# Altium integrated library Renesas Logic.IntLib: 1013 symbols (part 25 of 27)
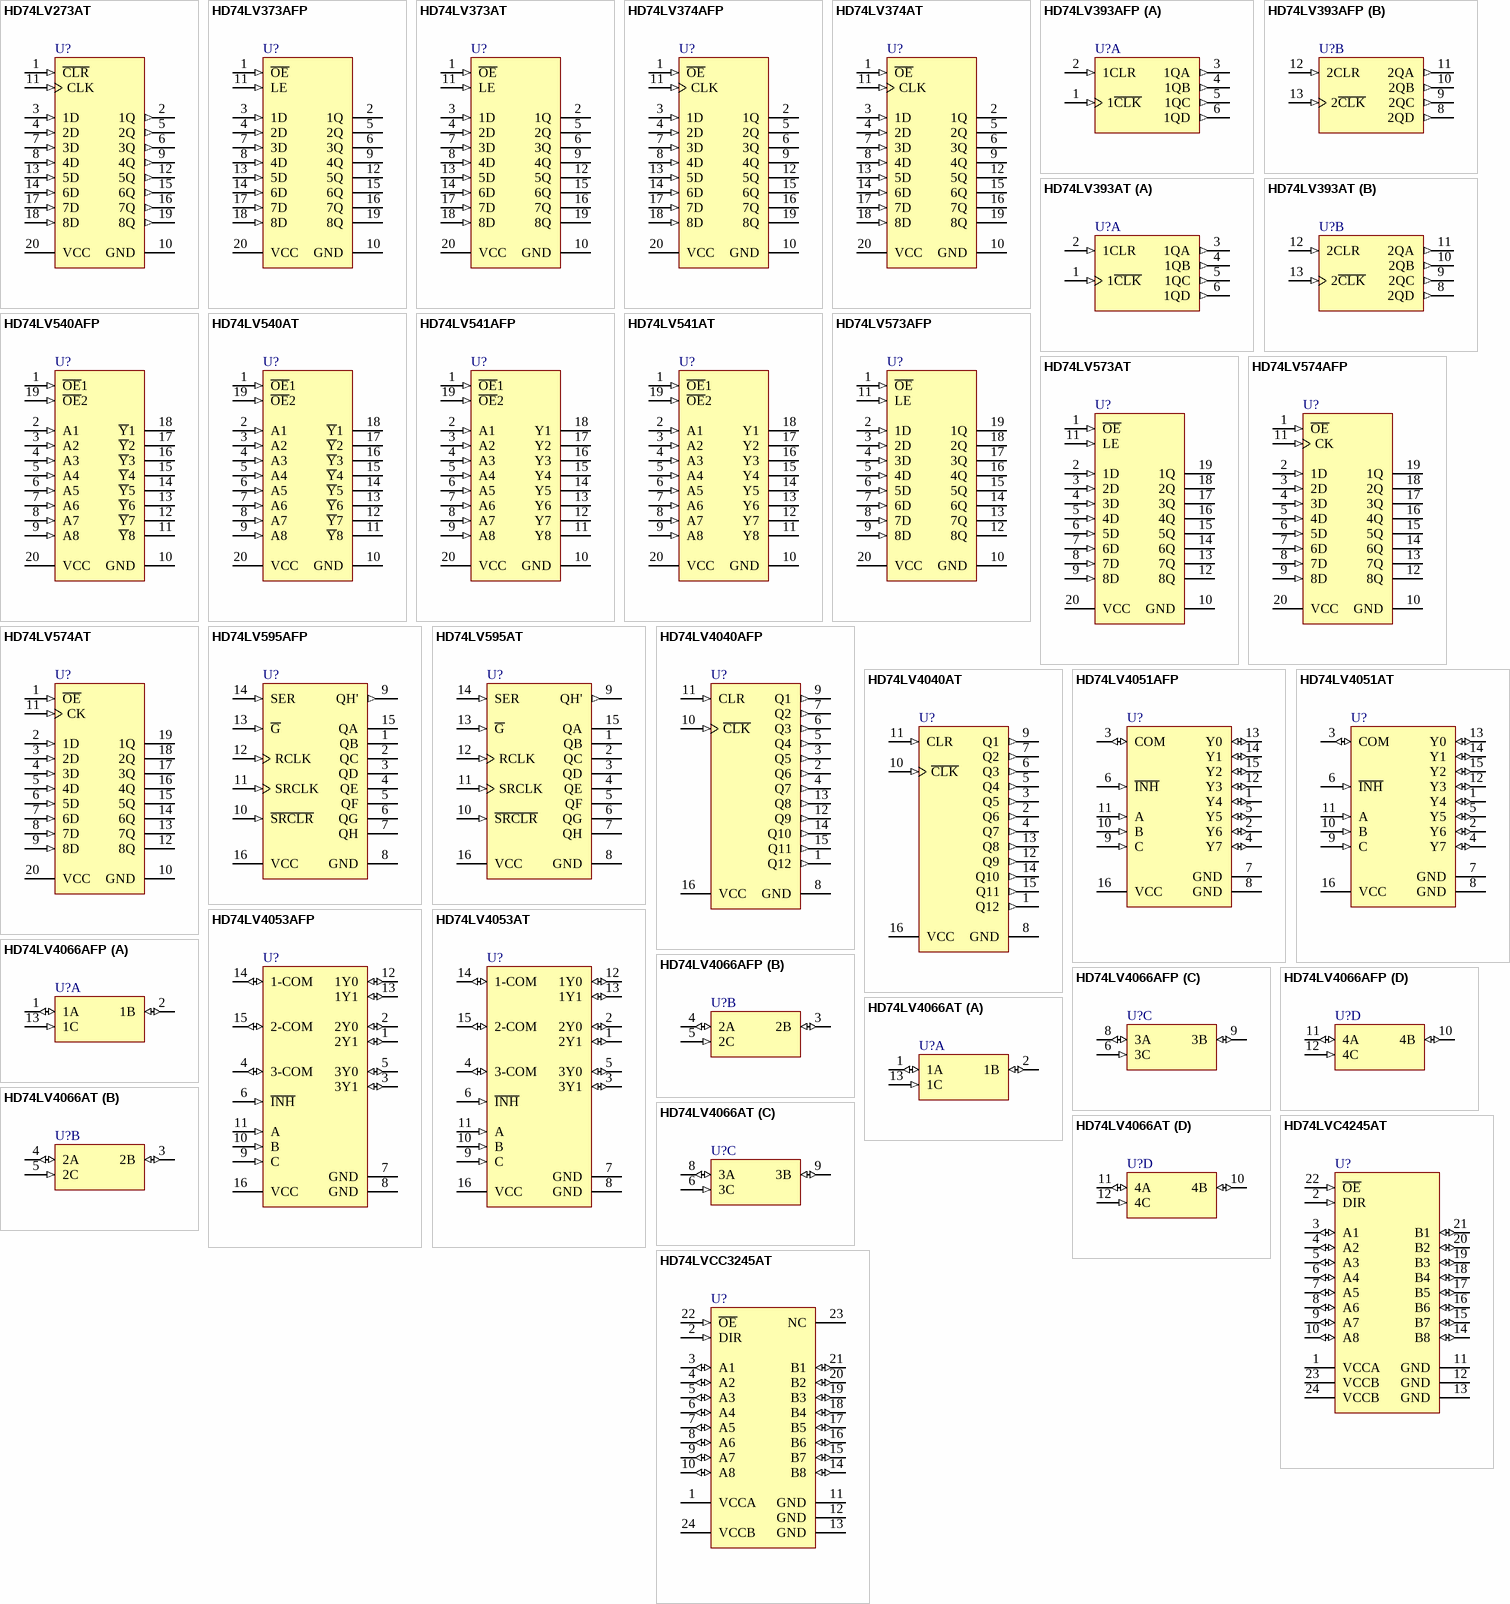
[diagram p77: symbols HD74LV273AT to HD74LVCC3245AT]

## HD74LV4066AT
designator U?
Quad Analog Switches / Quad Multiplexers; Published: 10-Feb-2010; DatasheetVersion: Rev.4.00, Jul-2004; PackageVersion: Sep-2005; PackageReference: PTSP0014JA-B; Publisher: Altium Limited; PackageDescription: 14-Pin Plastic Thin Small Outline Package 0.65 mm Pitch; Code_JEITA: P-TSSOP14-4.4x5-0.65; ComponentLink1Description: Manufacturer Link; ComponentLink1URL: http://sg.renesas.com/fmwk.jsp?cnt=hd74lv_a_root.jsp&fp=/products/standard_ic/general_purpose_logic/low_voltage_logic/hd74lv_a/; ComponentLink2Description: Datasheet; ComponentLink2URL: http://documentation.renesas.com/eng/products/logic/rej03d0340_hd74lv4066a.pdf; ComponentLink3Description: Packaging Specification; ComponentLink3URL: http://sg.renesas.com/media/products/common_info/package/pdf/ic/code/ptsp0014ja_b.pdf
footprint PTSP0014JA-B_N (TSOP, 14-Leads, Body 5x4.4mm, Pitch 0.65mm, IPC Medium Density)
footprint PTSP0014JA-B_L (TSOP, 14-Leads, Body 5x4.4mm, Pitch 0.65mm, IPC High Density)
footprint PTSP0014JA-B_M (TSOP, 14-Leads, Body 5x4.4mm, Pitch 0.65mm, IPC Low Density)
pins on every part: 7 GND (power) hidden, 14 VCC (power) hidden
part A pins: 1 1A (io), 2 1B (io), 13 1C (in)
part B pins: 3 2B (io), 4 2A (io), 5 2C (in)
part C pins: 6 3C (in), 8 3A (io), 9 3B (io)
part D pins: 10 4B (io), 11 4A (io), 12 4C (in)

## HD74LVC4245AT
designator U?
Octal Bus Transceiver and 3.3 V to 5 V shifters with 3-State Outputs; Published: 10-Feb-2010; DatasheetVersion: Rev.1.01, Apr-2005; PackageVersion: Sep-2005; PackageReference: PTSP0024JB-A; Publisher: Altium Limited; PackageDescription: 24-Pin Plastic Thin Small Outline Package, 7.8 x 4.4 mm Body, 0.65 mm Pitch; Code_JEITA: P-TSSOP24-4.4x7.8-0.65; ComponentLink1Description: Manufacturer Link; ComponentLink1URL: http://sg.renesas.com/fmwk.jsp?cnt=hd74lvc_root.jsp&fp=/products/standard_ic/general_purpose_logic/low_voltage_logic/hd74lvc/; ComponentLink2Description: Datasheet; ComponentLink2URL: http://documentation.renesas.com/eng/products/logic/rej03d0378_hd74lvc4245a.pdf; ComponentLink3Description: Packaging Specification; ComponentLink3URL: http://sg.renesas.com/media/products/common_info/package/pdf/ic/code/ptsp0024jb_a.pdf
footprint PTSP0024JB-A_N (TSOP, 24-Leads, Body 7.8x4.4mm, Pitch 0.65mm, IPC Medium Density)
footprint PTSP0024JB-A_L (TSOP, 24-Leads, Body 7.8x4.4mm, Pitch 0.65mm, IPC High Density)
footprint PTSP0024JB-A_M (TSOP, 24-Leads, Body 7.8x4.4mm, Pitch 0.65mm, IPC Low Density)
pins: 1 VCCA (power), 2 DIR (in), 3 A1 (io), 4 A2 (io), 5 A3 (io), 6 A4 (io), 7 A5 (io), 8 A6 (io), 9 A7 (io), 10 A8 (io), 11 GND (power), 12 GND (power), 13 GND (power), 14 B8 (io), 15 B7 (io), 16 B6 (io), 17 B5 (io), 18 B4 (io), 19 B3 (io), 20 B2 (io), 21 B1 (io), 22 ~{OE} (in), 23 VCCB (power), 24 VCCB (power)

## HD74LVCC3245AT
designator U?
Octal Bus Transceiver with adjustable Output Voltage and 3-State Outputs; Published: 10-Feb-2010; DatasheetVersion: Rev.2.01, Apr-2005; PackageVersion: Sep-2005; PackageReference: PTSP0024JB-A; Publisher: Altium Limited; PackageDescription: 24-Pin Plastic Thin Small Outline Package, 7.8 x 4.4 mm Body, 0.65 mm Pitch; Code_JEITA: P-TSSOP24-4.4x7.8-0.65; ComponentLink1Description: Manufacturer Link; ComponentLink1URL: http://sg.renesas.com/fmwk.jsp?cnt=hd74lvc_root.jsp&fp=/products/standard_ic/general_purpose_logic/low_voltage_logic/hd74lvc/; ComponentLink2Description: Datasheet; ComponentLink2URL: http://documentation.renesas.com/eng/products/logic/rej03d0379_hd74lvcc3245a.pdf; ComponentLink3Description: Packaging Specification; ComponentLink3URL: http://sg.renesas.com/media/products/common_info/package/pdf/ic/code/ptsp0024jb_a.pdf
footprint PTSP0024JB-A_N (TSOP, 24-Leads, Body 7.8x4.4mm, Pitch 0.65mm, IPC Medium Density)
footprint PTSP0024JB-A_L (TSOP, 24-Leads, Body 7.8x4.4mm, Pitch 0.65mm, IPC High Density)
footprint PTSP0024JB-A_M (TSOP, 24-Leads, Body 7.8x4.4mm, Pitch 0.65mm, IPC Low Density)
pins: 1 VCCA (power), 2 DIR (in), 3 A1 (io), 4 A2 (io), 5 A3 (io), 6 A4 (io), 7 A5 (io), 8 A6 (io), 9 A7 (io), 10 A8 (io), 11 GND (power), 12 GND (power), 13 GND (power), 14 B8 (io), 15 B7 (io), 16 B6 (io), 17 B5 (io), 18 B4 (io), 19 B3 (io), 20 B2 (io), 21 B1 (io), 22 ~{OE} (in), 23 NC, 24 VCCB (power)

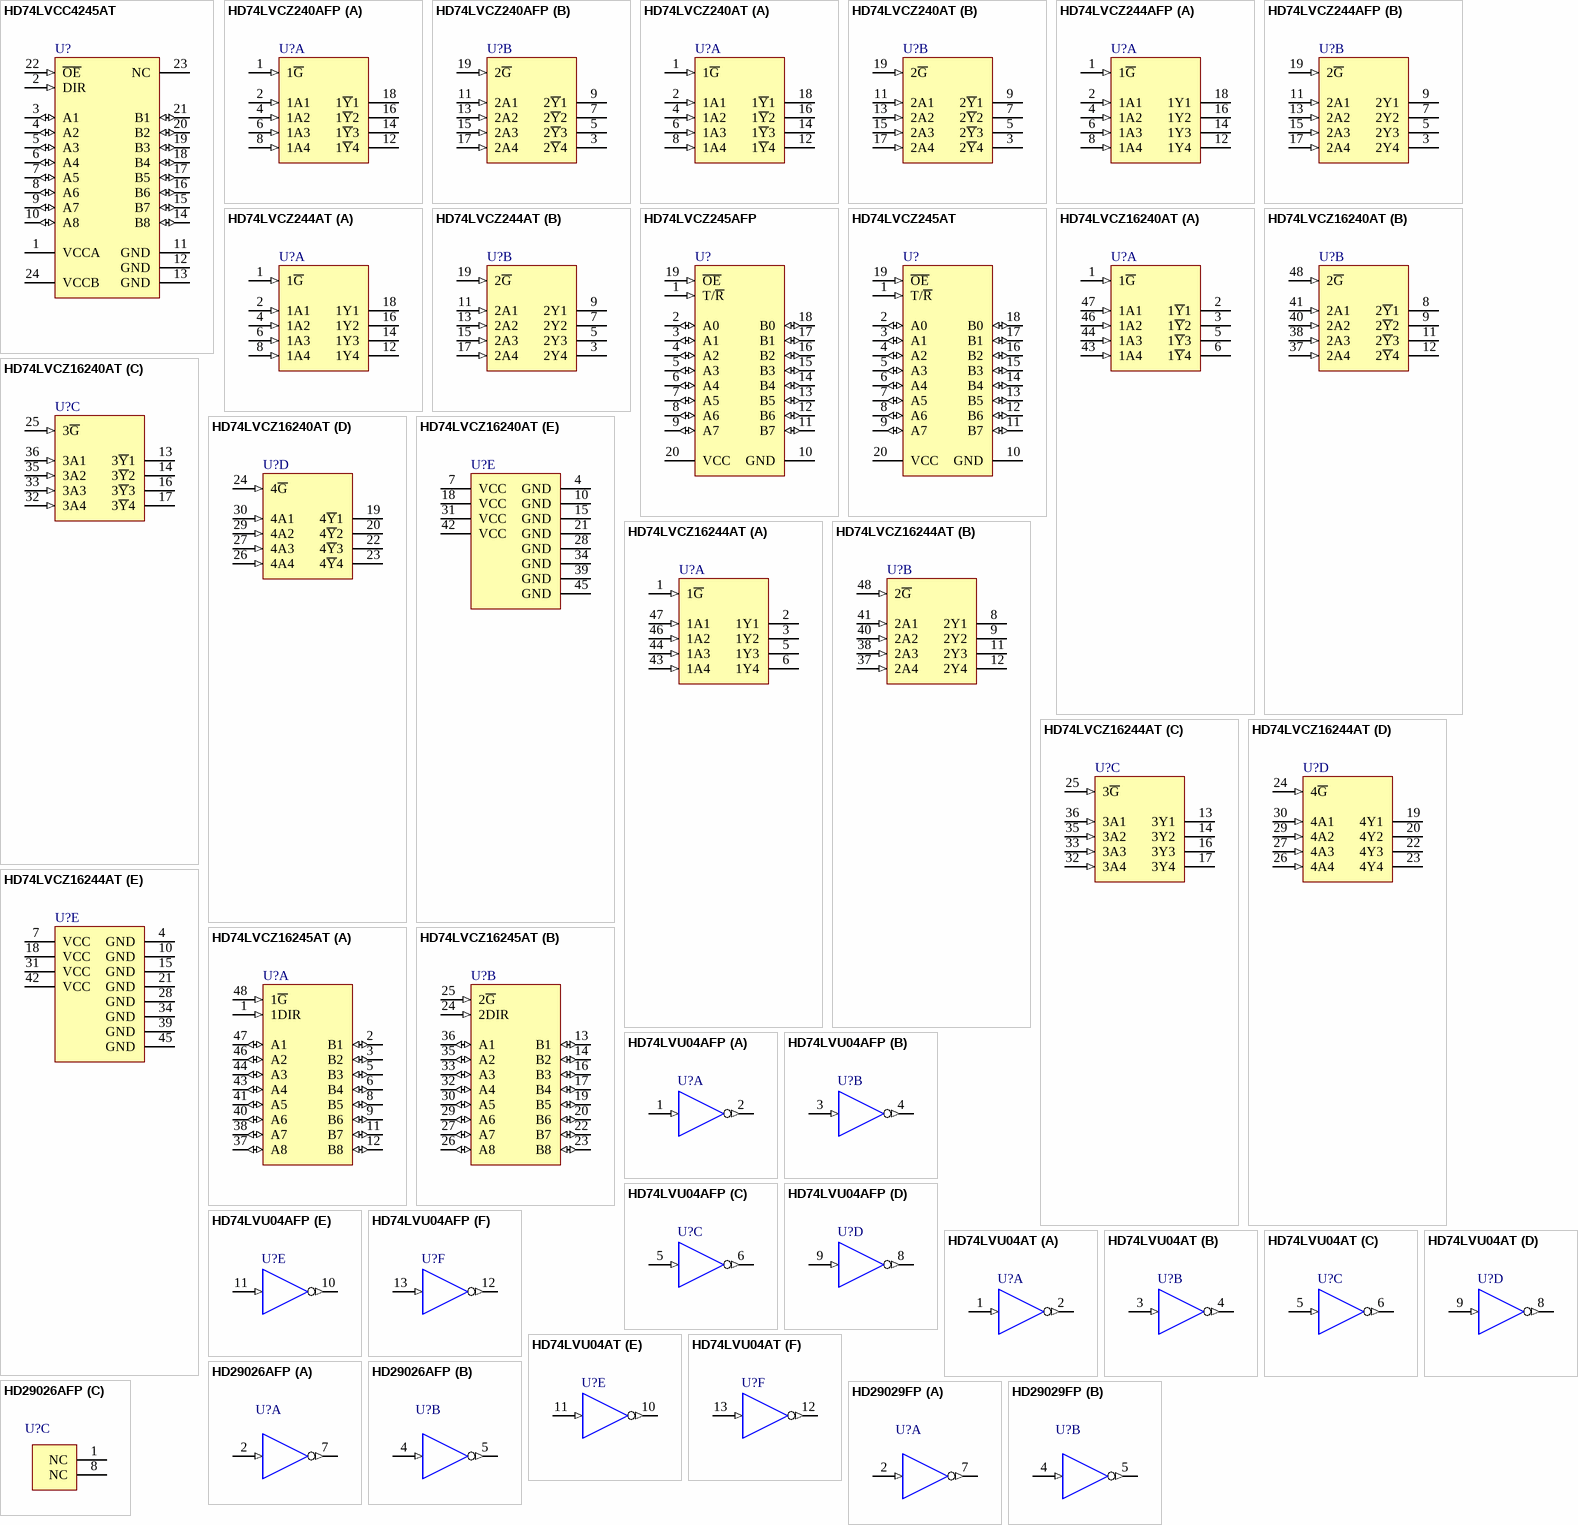
[diagram p47: symbols HD74LVCC4245AT to HD29029FP]

## HD74LVCC4245AT
designator U?
Octal Dual-Supply Bus Transceiver with configurable Output Voltage and 3-State Outputs; Published: 10-Feb-2010; DatasheetVersion: Rev.1.01, Apr-2005; PackageVersion: Sep-2005; PackageReference: PTSP0024JB-A; Publisher: Altium Limited; PackageDescription: 24-Pin Plastic Thin Small Outline Package, 7.8 x 4.4 mm Body, 0.65 mm Pitch; Code_JEITA: P-TSSOP24-4.4x7.8-0.65; ComponentLink1Description: Manufacturer Link; ComponentLink1URL: http://sg.renesas.com/fmwk.jsp?cnt=hd74lvc_root.jsp&fp=/products/standard_ic/general_purpose_logic/low_voltage_logic/hd74lvc/; ComponentLink2Description: Datasheet; ComponentLink2URL: http://documentation.renesas.com/eng/products/logic/rej03d0380_hd74lvcc4245a.pdf; ComponentLink3Description: Packaging Specification; ComponentLink3URL: http://sg.renesas.com/media/products/common_info/package/pdf/ic/code/ptsp0024jb_a.pdf
footprint PTSP0024JB-A_N (TSOP, 24-Leads, Body 7.8x4.4mm, Pitch 0.65mm, IPC Medium Density)
footprint PTSP0024JB-A_L (TSOP, 24-Leads, Body 7.8x4.4mm, Pitch 0.65mm, IPC High Density)
footprint PTSP0024JB-A_M (TSOP, 24-Leads, Body 7.8x4.4mm, Pitch 0.65mm, IPC Low Density)
pins: 1 VCCA (power), 2 DIR (in), 3 A1 (io), 4 A2 (io), 5 A3 (io), 6 A4 (io), 7 A5 (io), 8 A6 (io), 9 A7 (io), 10 A8 (io), 11 GND (power), 12 GND (power), 13 GND (power), 14 B8 (io), 15 B7 (io), 16 B6 (io), 17 B5 (io), 18 B4 (io), 19 B3 (io), 20 B2 (io), 21 B1 (io), 22 ~{OE} (in), 23 NC, 24 VCCB (power)

## HD74LVCZ240AFP
designator U?
Octal Buffers / Line Drivers with Inverted 3-State Outputs (live insertion); Published: 10-Feb-2010; DatasheetVersion: Rev.3.00, Jul-2004; PackageVersion: Sep-2005; PackageReference: PRSP0020DD-B; Publisher: Altium Limited; PackageDescription: 20-Pin Plastic Small Outline Package, 12.6 x 5.5 x 1.8 mm Body, 1.27 mm Pitch; Code_JEITA: P-SOP20-5.5x12.6-1.27; ComponentLink1Description: Manufacturer Link; ComponentLink1URL: http://sg.renesas.com/fmwk.jsp?cnt=hd74lvc_root.jsp&fp=/products/standard_ic/general_purpose_logic/low_voltage_logic/hd74lvc/; ComponentLink2Description: Datasheet; ComponentLink2URL: http://documentation.renesas.com/eng/products/logic/rej03d0370_hd74lvcz240a.pdf; ComponentLink3Description: Packaging Specification; ComponentLink3URL: http://sg.renesas.com/media/products/common_info/package/pdf/ic/code/prsp0020dd_b.pdf
footprint PRSP0020DD-B_N (SOP, 20-Leads, Body 12.6x5.3mm, Pitch 1.27mm, IPC Medium Density)
footprint PRSP0020DD-B_L (SOP, 20-Leads, Body 12.6x5.3mm, Pitch 1.27mm, IPC High Density)
footprint PRSP0020DD-B_M (SOP, 20-Leads, Body 12.6x5.3mm, Pitch 1.27mm, IPC Low Density)
pins on every part: 10 GND (power) hidden, 20 VCC (power) hidden
part A pins: 1 1~{G} (in), 2 1A1 (in), 4 1A2 (in), 6 1A3 (in), 8 1A4 (in), 12 1~{Y}4 (hiz), 14 1~{Y}3 (hiz), 16 1~{Y}2 (hiz), 18 1~{Y}1 (hiz)
part B pins: 3 2~{Y}4 (hiz), 5 2~{Y}3 (hiz), 7 2~{Y}2 (hiz), 9 2~{Y}1 (hiz), 11 2A1 (in), 13 2A2 (in), 15 2A3 (in), 17 2A4 (in), 19 2~{G} (in)

## HD74LVCZ240AT
designator U?
Octal Buffers / Line Drivers with Inverted 3-State Outputs (live insertion); Published: 10-Feb-2010; DatasheetVersion: Rev.3.00, Jul-2004; PackageVersion: Sep-2005; PackageReference: PTSP0020JB-A; Publisher: Altium Limited; PackageDescription: 20-Pin Plastic Thin Small Outline Package, 6.5 x 4.4 mm Body, 0.65 mm Pitch; Code_JEITA: P-TSSOP20-4.4x6.5-0.65; ComponentLink1Description: Manufacturer Link; ComponentLink1URL: http://sg.renesas.com/fmwk.jsp?cnt=hd74lvc_root.jsp&fp=/products/standard_ic/general_purpose_logic/low_voltage_logic/hd74lvc/; ComponentLink2Description: Datasheet; ComponentLink2URL: http://documentation.renesas.com/eng/products/logic/rej03d0370_hd74lvcz240a.pdf; ComponentLink3Description: Packaging Specification; ComponentLink3URL: http://sg.renesas.com/media/products/common_info/package/pdf/ic/code/ptsp0020jb_a.pdf
footprint PTSP0020JB-A_N (TSOP, 20-Leads, Body 6.5x4.4mm, Pitch 0.65mm, IPC Medium Density)
footprint PTSP0020JB-A_L (TSOP, 20-Leads, Body 6.5x4.4mm, Pitch 0.65mm, IPC High Density)
footprint PTSP0020JB-A_M (TSOP, 20-Leads, Body 6.5x4.4mm, Pitch 0.65mm, IPC Low Density)
pins on every part: 10 GND (power) hidden, 20 VCC (power) hidden
part A pins: 1 1~{G} (in), 2 1A1 (in), 4 1A2 (in), 6 1A3 (in), 8 1A4 (in), 12 1~{Y}4 (hiz), 14 1~{Y}3 (hiz), 16 1~{Y}2 (hiz), 18 1~{Y}1 (hiz)
part B pins: 3 2~{Y}4 (hiz), 5 2~{Y}3 (hiz), 7 2~{Y}2 (hiz), 9 2~{Y}1 (hiz), 11 2A1 (in), 13 2A2 (in), 15 2A3 (in), 17 2A4 (in), 19 2~{G} (in)

## HD74LVCZ244AFP
designator U?
Octal Buffers / Line Drivers with Non-Inverted 3-State Outputs (live insertion); Published: 10-Feb-2010; DatasheetVersion: Rev.3.00, Aug-2004; PackageVersion: Sep-2005; PackageReference: PRSP0020DD-B; Publisher: Altium Limited; PackageDescription: 20-Pin Plastic Small Outline Package, 12.6 x 5.5 x 1.8 mm Body, 1.27 mm Pitch; Code_JEITA: P-SOP20-5.5x12.6-1.27; ComponentLink1Description: Manufacturer Link; ComponentLink1URL: http://sg.renesas.com/fmwk.jsp?cnt=hd74lvc_root.jsp&fp=/products/standard_ic/general_purpose_logic/low_voltage_logic/hd74lvc/; ComponentLink2Description: Datasheet; ComponentLink2URL: http://documentation.renesas.com/eng/products/logic/rej03d0371_hd74lvcz244a.pdf; ComponentLink3Description: Packaging Specification; ComponentLink3URL: http://sg.renesas.com/media/products/common_info/package/pdf/ic/code/prsp0020dd_b.pdf
footprint PRSP0020DD-B_N (SOP, 20-Leads, Body 12.6x5.3mm, Pitch 1.27mm, IPC Medium Density)
footprint PRSP0020DD-B_L (SOP, 20-Leads, Body 12.6x5.3mm, Pitch 1.27mm, IPC High Density)
footprint PRSP0020DD-B_M (SOP, 20-Leads, Body 12.6x5.3mm, Pitch 1.27mm, IPC Low Density)
pins on every part: 10 GND (power) hidden, 20 VCC (power) hidden
part A pins: 1 1~{G} (in), 2 1A1 (in), 4 1A2 (in), 6 1A3 (in), 8 1A4 (in), 12 1Y4 (hiz), 14 1Y3 (hiz), 16 1Y2 (hiz), 18 1Y1 (hiz)
part B pins: 3 2Y4 (hiz), 5 2Y3 (hiz), 7 2Y2 (hiz), 9 2Y1 (hiz), 11 2A1 (in), 13 2A2 (in), 15 2A3 (in), 17 2A4 (in), 19 2~{G} (in)

## HD74LVCZ244AT
designator U?
Octal Buffers / Line Drivers with Non-Inverted 3-State Outputs (live insertion); Published: 10-Feb-2010; DatasheetVersion: Rev.3.00, Aug-2004; PackageVersion: Sep-2005; PackageReference: PTSP0020JB-A; Publisher: Altium Limited; PackageDescription: 20-Pin Plastic Thin Small Outline Package, 6.5 x 4.4 mm Body, 0.65 mm Pitch; Code_JEITA: P-TSSOP20-4.4x6.5-0.65; ComponentLink1Description: Manufacturer Link; ComponentLink1URL: http://sg.renesas.com/fmwk.jsp?cnt=hd74lvc_root.jsp&fp=/products/standard_ic/general_purpose_logic/low_voltage_logic/hd74lvc/; ComponentLink2Description: Datasheet; ComponentLink2URL: http://documentation.renesas.com/eng/products/logic/rej03d0371_hd74lvcz244a.pdf; ComponentLink3Description: Packaging Specification; ComponentLink3URL: http://sg.renesas.com/media/products/common_info/package/pdf/ic/code/ptsp0020jb_a.pdf
footprint PTSP0020JB-A_N (TSOP, 20-Leads, Body 6.5x4.4mm, Pitch 0.65mm, IPC Medium Density)
footprint PTSP0020JB-A_L (TSOP, 20-Leads, Body 6.5x4.4mm, Pitch 0.65mm, IPC High Density)
footprint PTSP0020JB-A_M (TSOP, 20-Leads, Body 6.5x4.4mm, Pitch 0.65mm, IPC Low Density)
pins on every part: 10 GND (power) hidden, 20 VCC (power) hidden
part A pins: 1 1~{G} (in), 2 1A1 (in), 4 1A2 (in), 6 1A3 (in), 8 1A4 (in), 12 1Y4 (hiz), 14 1Y3 (hiz), 16 1Y2 (hiz), 18 1Y1 (hiz)
part B pins: 3 2Y4 (hiz), 5 2Y3 (hiz), 7 2Y2 (hiz), 9 2Y1 (hiz), 11 2A1 (in), 13 2A2 (in), 15 2A3 (in), 17 2A4 (in), 19 2~{G} (in)

## HD74LVCZ245AFP
designator U?
Octal Bidirectional Bus Transceivers with 3-State Outputs (live insertion); Published: 10-Feb-2010; DatasheetVersion: Rev.3.00, Aug-2004; PackageVersion: Sep-2005; PackageReference: PRSP0020DD-B; Publisher: Altium Limited; PackageDescription: 20-Pin Plastic Small Outline Package, 12.6 x 5.5 x 1.8 mm Body, 1.27 mm Pitch; Code_JEITA: P-SOP20-5.5x12.6-1.27; ComponentLink1Description: Manufacturer Link; ComponentLink1URL: http://sg.renesas.com/fmwk.jsp?cnt=hd74lvc_root.jsp&fp=/products/standard_ic/general_purpose_logic/low_voltage_logic/hd74lvc/; ComponentLink2Description: Datasheet; ComponentLink2URL: http://documentation.renesas.com/eng/products/logic/rej03d0372_hd74lvcz245a.pdf; ComponentLink3Description: Packaging Specification; ComponentLink3URL: http://sg.renesas.com/media/products/common_info/package/pdf/ic/code/prsp0020dd_b.pdf
footprint PRSP0020DD-B_N (SOP, 20-Leads, Body 12.6x5.3mm, Pitch 1.27mm, IPC Medium Density)
footprint PRSP0020DD-B_L (SOP, 20-Leads, Body 12.6x5.3mm, Pitch 1.27mm, IPC High Density)
footprint PRSP0020DD-B_M (SOP, 20-Leads, Body 12.6x5.3mm, Pitch 1.27mm, IPC Low Density)
pins: 1 T/~{R} (in), 2 A0 (io), 3 A1 (io), 4 A2 (io), 5 A3 (io), 6 A4 (io), 7 A5 (io), 8 A6 (io), 9 A7 (io), 10 GND (power), 11 B7 (io), 12 B6 (io), 13 B5 (io), 14 B4 (io), 15 B3 (io), 16 B2 (io), 17 B1 (io), 18 B0 (io), 19 ~{OE} (in), 20 VCC (power)

## HD74LVCZ245AT
designator U?
Octal Bidirectional Bus Transceivers with 3-State Outputs (live insertion); Published: 10-Feb-2010; DatasheetVersion: Rev.3.00, Aug-2004; PackageVersion: Sep-2005; PackageReference: PTSP0020JB-A; Publisher: Altium Limited; PackageDescription: 20-Pin Plastic Thin Small Outline Package, 6.5 x 4.4 mm Body, 0.65 mm Pitch; Code_JEITA: P-TSSOP20-4.4x6.5-0.65; ComponentLink1Description: Manufacturer Link; ComponentLink1URL: http://sg.renesas.com/fmwk.jsp?cnt=hd74lvc_root.jsp&fp=/products/standard_ic/general_purpose_logic/low_voltage_logic/hd74lvc/; ComponentLink2Description: Datasheet; ComponentLink2URL: http://documentation.renesas.com/eng/products/logic/rej03d0372_hd74lvcz245a.pdf; ComponentLink3Description: Packaging Specification; ComponentLink3URL: http://sg.renesas.com/media/products/common_info/package/pdf/ic/code/ptsp0020jb_a.pdf
footprint PTSP0020JB-A_N (TSOP, 20-Leads, Body 6.5x4.4mm, Pitch 0.65mm, IPC Medium Density)
footprint PTSP0020JB-A_L (TSOP, 20-Leads, Body 6.5x4.4mm, Pitch 0.65mm, IPC High Density)
footprint PTSP0020JB-A_M (TSOP, 20-Leads, Body 6.5x4.4mm, Pitch 0.65mm, IPC Low Density)
pins: 1 T/~{R} (in), 2 A0 (io), 3 A1 (io), 4 A2 (io), 5 A3 (io), 6 A4 (io), 7 A5 (io), 8 A6 (io), 9 A7 (io), 10 GND (power), 11 B7 (io), 12 B6 (io), 13 B5 (io), 14 B4 (io), 15 B3 (io), 16 B2 (io), 17 B1 (io), 18 B0 (io), 19 ~{OE} (in), 20 VCC (power)

## HD74LVCZ16240AT
designator U?
16-bit Buffers / Line Drivers with Inverted 3-State Outputs (live insertion); Published: 10-Feb-2010; DatasheetVersion: Rev.2.00, Aug-2004; PackageVersion: Sep-2005; PackageReference: PTSP0048KA-A; Publisher: Altium Limited; PackageDescription: 48-Pin Thin Shrink Small Outline Package, 12.5 x 6.1 mm Body, 0.5 mm Pitch; Code_JEITA: P-TSSOP48-6.1x12.5-0.50; ComponentLink1Description: Manufacturer Link; ComponentLink1URL: http://sg.renesas.com/fmwk.jsp?cnt=hd74lvc_root.jsp&fp=/products/standard_ic/general_purpose_logic/low_voltage_logic/hd74lvc/; ComponentLink2Description: Datasheet; ComponentLink2URL: http://documentation.renesas.com/eng/products/logic/rej03d0373_hd74lvcz16240a.pdf; ComponentLink3Description: Packaging Specification; ComponentLink3URL: http://sg.renesas.com/media/products/common_info/package/pdf/ic/code/ptsp0048ka_a.pdf
footprint PTSP0048KA-A_N (TSSOP, 48-Leads, Body 12.5x6.1mm, Pitch 0.5mm, IPC Medium Density)
footprint PTSP0048KA-A_L (TSSOP, 48-Leads, Body 12.5x6.1mm, Pitch 0.5mm, IPC High Density)
footprint PTSP0048KA-A_M (TSSOP, 48-Leads, Body 12.5x6.1mm, Pitch 0.5mm, IPC Low Density)
part A pins: 1 1~{G} (in), 2 1~{Y}1 (hiz), 3 1~{Y}2 (hiz), 5 1~{Y}3 (hiz), 6 1~{Y}4 (hiz), 43 1A4 (in), 44 1A3 (in), 46 1A2 (in), 47 1A1 (in)
part B pins: 8 2~{Y}1 (hiz), 9 2~{Y}2 (hiz), 11 2~{Y}3 (hiz), 12 2~{Y}4 (hiz), 37 2A4 (in), 38 2A3 (in), 40 2A2 (in), 41 2A1 (in), 48 2~{G} (in)
part C pins: 13 3~{Y}1 (hiz), 14 3~{Y}2 (hiz), 16 3~{Y}3 (hiz), 17 3~{Y}4 (hiz), 25 3~{G} (in), 32 3A4 (in), 33 3A3 (in), 35 3A2 (in), 36 3A1 (in)
part D pins: 19 4~{Y}1 (hiz), 20 4~{Y}2 (hiz), 22 4~{Y}3 (hiz), 23 4~{Y}4 (hiz), 24 4~{G} (in), 26 4A4 (in), 27 4A3 (in), 29 4A2 (in), 30 4A1 (in)
part E pins: 4 GND (power), 7 VCC (power), 10 GND (power), 15 GND (power), 18 VCC (power), 21 GND (power), 28 GND (power), 31 VCC (power), 34 GND (power), 39 GND (power), 42 VCC (power), 45 GND (power)

## HD74LVCZ16244AT
designator U?
16-bit Buffers / Line Drivers with Non-Inverted 3-State Outputs (live insertion); Published: 10-Feb-2010; DatasheetVersion: Rev.2.00, Aug-2004; PackageVersion: Sep-2005; PackageReference: PTSP0048KA-A; Publisher: Altium Limited; PackageDescription: 48-Pin Thin Shrink Small Outline Package, 12.5 x 6.1 mm Body, 0.5 mm Pitch; Code_JEITA: P-TSSOP48-6.1x12.5-0.50; ComponentLink1Description: Manufacturer Link; ComponentLink1URL: http://sg.renesas.com/fmwk.jsp?cnt=hd74lvc_root.jsp&fp=/products/standard_ic/general_purpose_logic/low_voltage_logic/hd74lvc/; ComponentLink2Description: Datasheet; ComponentLink2URL: http://documentation.renesas.com/eng/products/logic/rej03d0374_hd74lvcz16244a.pdf; ComponentLink3Description: Packaging Specification; ComponentLink3URL: http://sg.renesas.com/media/products/common_info/package/pdf/ic/code/ptsp0048ka_a.pdf
footprint PTSP0048KA-A_N (TSSOP, 48-Leads, Body 12.5x6.1mm, Pitch 0.5mm, IPC Medium Density)
footprint PTSP0048KA-A_L (TSSOP, 48-Leads, Body 12.5x6.1mm, Pitch 0.5mm, IPC High Density)
footprint PTSP0048KA-A_M (TSSOP, 48-Leads, Body 12.5x6.1mm, Pitch 0.5mm, IPC Low Density)
part A pins: 1 1~{G} (in), 2 1Y1 (hiz), 3 1Y2 (hiz), 5 1Y3 (hiz), 6 1Y4 (hiz), 43 1A4 (in), 44 1A3 (in), 46 1A2 (in), 47 1A1 (in)
part B pins: 8 2Y1 (hiz), 9 2Y2 (hiz), 11 2Y3 (hiz), 12 2Y4 (hiz), 37 2A4 (in), 38 2A3 (in), 40 2A2 (in), 41 2A1 (in), 48 2~{G} (in)
part C pins: 13 3Y1 (hiz), 14 3Y2 (hiz), 16 3Y3 (hiz), 17 3Y4 (hiz), 25 3~{G} (in), 32 3A4 (in), 33 3A3 (in), 35 3A2 (in), 36 3A1 (in)
part D pins: 19 4Y1 (hiz), 20 4Y2 (hiz), 22 4Y3 (hiz), 23 4Y4 (hiz), 24 4~{G} (in), 26 4A4 (in), 27 4A3 (in), 29 4A2 (in), 30 4A1 (in)
part E pins: 4 GND (power), 7 VCC (power), 10 GND (power), 15 GND (power), 18 VCC (power), 21 GND (power), 28 GND (power), 31 VCC (power), 34 GND (power), 39 GND (power), 42 VCC (power), 45 GND (power)

## HD74LVCZ16245AT
designator U?
16-bit Bidirectional Bus Transceivers with 3-State Outputs (live insertion); Published: 10-Feb-2010; DatasheetVersion: Rev.2.00, Aug-2004; PackageVersion: Sep-2005; PackageReference: PTSP0048KA-A; Publisher: Altium Limited; PackageDescription: 48-Pin Thin Shrink Small Outline Package, 12.5 x 6.1 mm Body, 0.5 mm Pitch; Code_JEITA: P-TSSOP48-6.1x12.5-0.50; ComponentLink1Description: Manufacturer Link; ComponentLink1URL: http://sg.renesas.com/fmwk.jsp?cnt=hd74lvc_root.jsp&fp=/products/standard_ic/general_purpose_logic/low_voltage_logic/hd74lvc/; ComponentLink2Description: Datasheet; ComponentLink2URL: http://documentation.renesas.com/eng/products/logic/rej03d0375_hd74lvcz16245a.pdf; ComponentLink3Description: Packaging Specification; ComponentLink3URL: http://sg.renesas.com/media/products/common_info/package/pdf/ic/code/ptsp0048ka_a.pdf
footprint PTSP0048KA-A_N (TSSOP, 48-Leads, Body 12.5x6.1mm, Pitch 0.5mm, IPC Medium Density)
footprint PTSP0048KA-A_L (TSSOP, 48-Leads, Body 12.5x6.1mm, Pitch 0.5mm, IPC High Density)
footprint PTSP0048KA-A_M (TSSOP, 48-Leads, Body 12.5x6.1mm, Pitch 0.5mm, IPC Low Density)
pins on every part: 4 GND (power) hidden to GND, 7 VCC (power) hidden to VCC, 10 GND (power) hidden to GND, 15 GND (power) hidden to GND, 18 VCC (power) hidden to VCC, 21 GND (power) hidden to GND, 28 GND (power) hidden to GND, 31 VCC (power) hidden to VCC, 34 GND (power) hidden to GND, 39 GND (power) hidden to GND, 42 VCC (power) hidden to VCC, 45 GND (power) hidden to GND
part A pins: 1 1DIR (in), 2 B1 (io), 3 B2 (io), 5 B3 (io), 6 B4 (io), 8 B5 (io), 9 B6 (io), 11 B7 (io), 12 B8 (io), 37 A8 (io), 38 A7 (io), 40 A6 (io), 41 A5 (io), 43 A4 (io), 44 A3 (io), 46 A2 (io), 47 A1 (io), 48 1~{G} (in)
part B pins: 13 B1 (io), 14 B2 (io), 16 B3 (io), 17 B4 (io), 19 B5 (io), 20 B6 (io), 22 B7 (io), 23 B8 (io), 24 2DIR (in), 25 2~{G} (in), 26 A8 (io), 27 A7 (io), 29 A6 (io), 30 A5 (io), 32 A4 (io), 33 A3 (io), 35 A2 (io), 36 A1 (io)

## HD74LVU04AFP
designator U?
Hex Inverters (Unbuffer); Published: 10-Feb-2010; DatasheetVersion: Rev.2.00, May-2004; PackageVersion: Sep-2005; PackageReference: PRSP0014DF-B; Publisher: Altium Limited; PackageDescription: 14-Pin Plastic Small Outline Package, 10.06 x 5.5 mm Body, 1.27 mm Pitch; Code_JEITA: P-SOP14-5.5x10.06-1.27; ComponentLink1Description: Manufacturer Link; ComponentLink1URL: http://sg.renesas.com/fmwk.jsp?cnt=hd74lv_a_root.jsp&fp=/products/standard_ic/general_purpose_logic/low_voltage_logic/hd74lv_a/; ComponentLink2Description: Datasheet; ComponentLink2URL: http://documentation.renesas.com/eng/products/logic/rej03d0228_hd74lvu04a.pdf; ComponentLink3Description: Packaging Specification; ComponentLink3URL: http://sg.renesas.com/media/products/common_info/package/pdf/ic/code/prsp0014df_b.pdf
footprint PRSP0014DF-B_N (SOP, 14-Leads, Body 10.06x5.5mm, Pitch 1.27mm, IPC Medium Density)
footprint PRSP0014DF-B_L (SOP, 14-Leads, Body 10.06x5.5mm, Pitch 1.27mm, IPC High Density)
footprint PRSP0014DF-B_M (SOP, 14-Leads, Body 10.06x5.5mm, Pitch 1.27mm, IPC Low Density)
pins on every part: 7 GND (power) hidden, 14 VCC (power) hidden
part A pins: 1 1A (in), 2 1~{Y} (out)
part B pins: 3 2A (in), 4 2~{Y} (out)
part C pins: 5 3A (in), 6 3~{Y} (out)
part D pins: 8 4~{Y} (out), 9 4A (in)
part E pins: 10 5~{Y} (out), 11 5A (in)
part F pins: 12 6~{Y} (out), 13 6A (in)

## HD74LVU04AT
designator U?
Hex Inverters (Unbuffer); Published: 10-Feb-2010; DatasheetVersion: Rev.2.00, May-2004; PackageVersion: Sep-2005; PackageReference: PTSP0014JA-B; Publisher: Altium Limited; PackageDescription: 14-Pin Plastic Thin Small Outline Package 0.65 mm Pitch; Code_JEITA: P-TSSOP14-4.4x5-0.65; ComponentLink1Description: Manufacturer Link; ComponentLink1URL: http://sg.renesas.com/fmwk.jsp?cnt=hd74lv_a_root.jsp&fp=/products/standard_ic/general_purpose_logic/low_voltage_logic/hd74lv_a/; ComponentLink2Description: Datasheet; ComponentLink2URL: http://documentation.renesas.com/eng/products/logic/rej03d0228_hd74lvu04a.pdf; ComponentLink3Description: Packaging Specification; ComponentLink3URL: http://sg.renesas.com/media/products/common_info/package/pdf/ic/code/ptsp0014ja_b.pdf
footprint PTSP0014JA-B_N (TSOP, 14-Leads, Body 5x4.4mm, Pitch 0.65mm, IPC Medium Density)
footprint PTSP0014JA-B_L (TSOP, 14-Leads, Body 5x4.4mm, Pitch 0.65mm, IPC High Density)
footprint PTSP0014JA-B_M (TSOP, 14-Leads, Body 5x4.4mm, Pitch 0.65mm, IPC Low Density)
pins on every part: 7 GND (power) hidden, 14 VCC (power) hidden
part A pins: 1 1A (in), 2 1~{Y} (out)
part B pins: 3 2A (in), 4 2~{Y} (out)
part C pins: 5 3A (in), 6 3~{Y} (out)
part D pins: 8 4~{Y} (out), 9 4A (in)
part E pins: 10 5~{Y} (out), 11 5A (in)
part F pins: 12 6~{Y} (out), 13 6A (in)

## HD29026AFP
designator U?
Dual CCD Drivers; Published: 10-Feb-2010; DatasheetVersion: Rev.2.00, Jul-2004; PackageVersion: Sep-2005; PackageReference: PRSP0008DE-B; Publisher: Altium Limited; PackageDescription: 8-Pin Plastic Small Outline Package 1.27 mm Pitch; Code_JEITA: P-SOP8-4.4x4.85-1.27; ComponentLink1Description: Manufacturer Link; ComponentLink1URL: http://sg.renesas.com/fmwk.jsp?cnt=ccd_mos_drivers_root.jsp&fp=/products/standard_ic/general_purpose_logic/interface/ccd_mos_drivers/; ComponentLink2Description: Datasheet; ComponentLink2URL: http://documentation.renesas.com/eng/products/logic/rej03d0302_hd29026a.pdf; ComponentLink3Description: Packaging Specification; ComponentLink3URL: http://sg.renesas.com/media/products/common_info/package/pdf/ic/code/prsp0008de_b.pdf
footprint PRSP0008DE-B_N (SOP, 8-Leads, Body 4.85x4.4mm, Pitch 1.27mm, IPC Medium Density)
footprint PRSP0008DE-B_L (SOP, 8-Leads, Body 4.85x4.4mm, Pitch 1.27mm, IPC High Density)
footprint PRSP0008DE-B_M (SOP, 8-Leads, Body 4.85x4.4mm, Pitch 1.27mm, IPC Low Density)
pins on every part: 3 GND (power) hidden, 6 VCC (power) hidden
part A pins: 2 1A (in), 7 1Y (out)
part B pins: 4 2A (in), 5 2Y (out)
part C pins: 1 NC, 8 NC

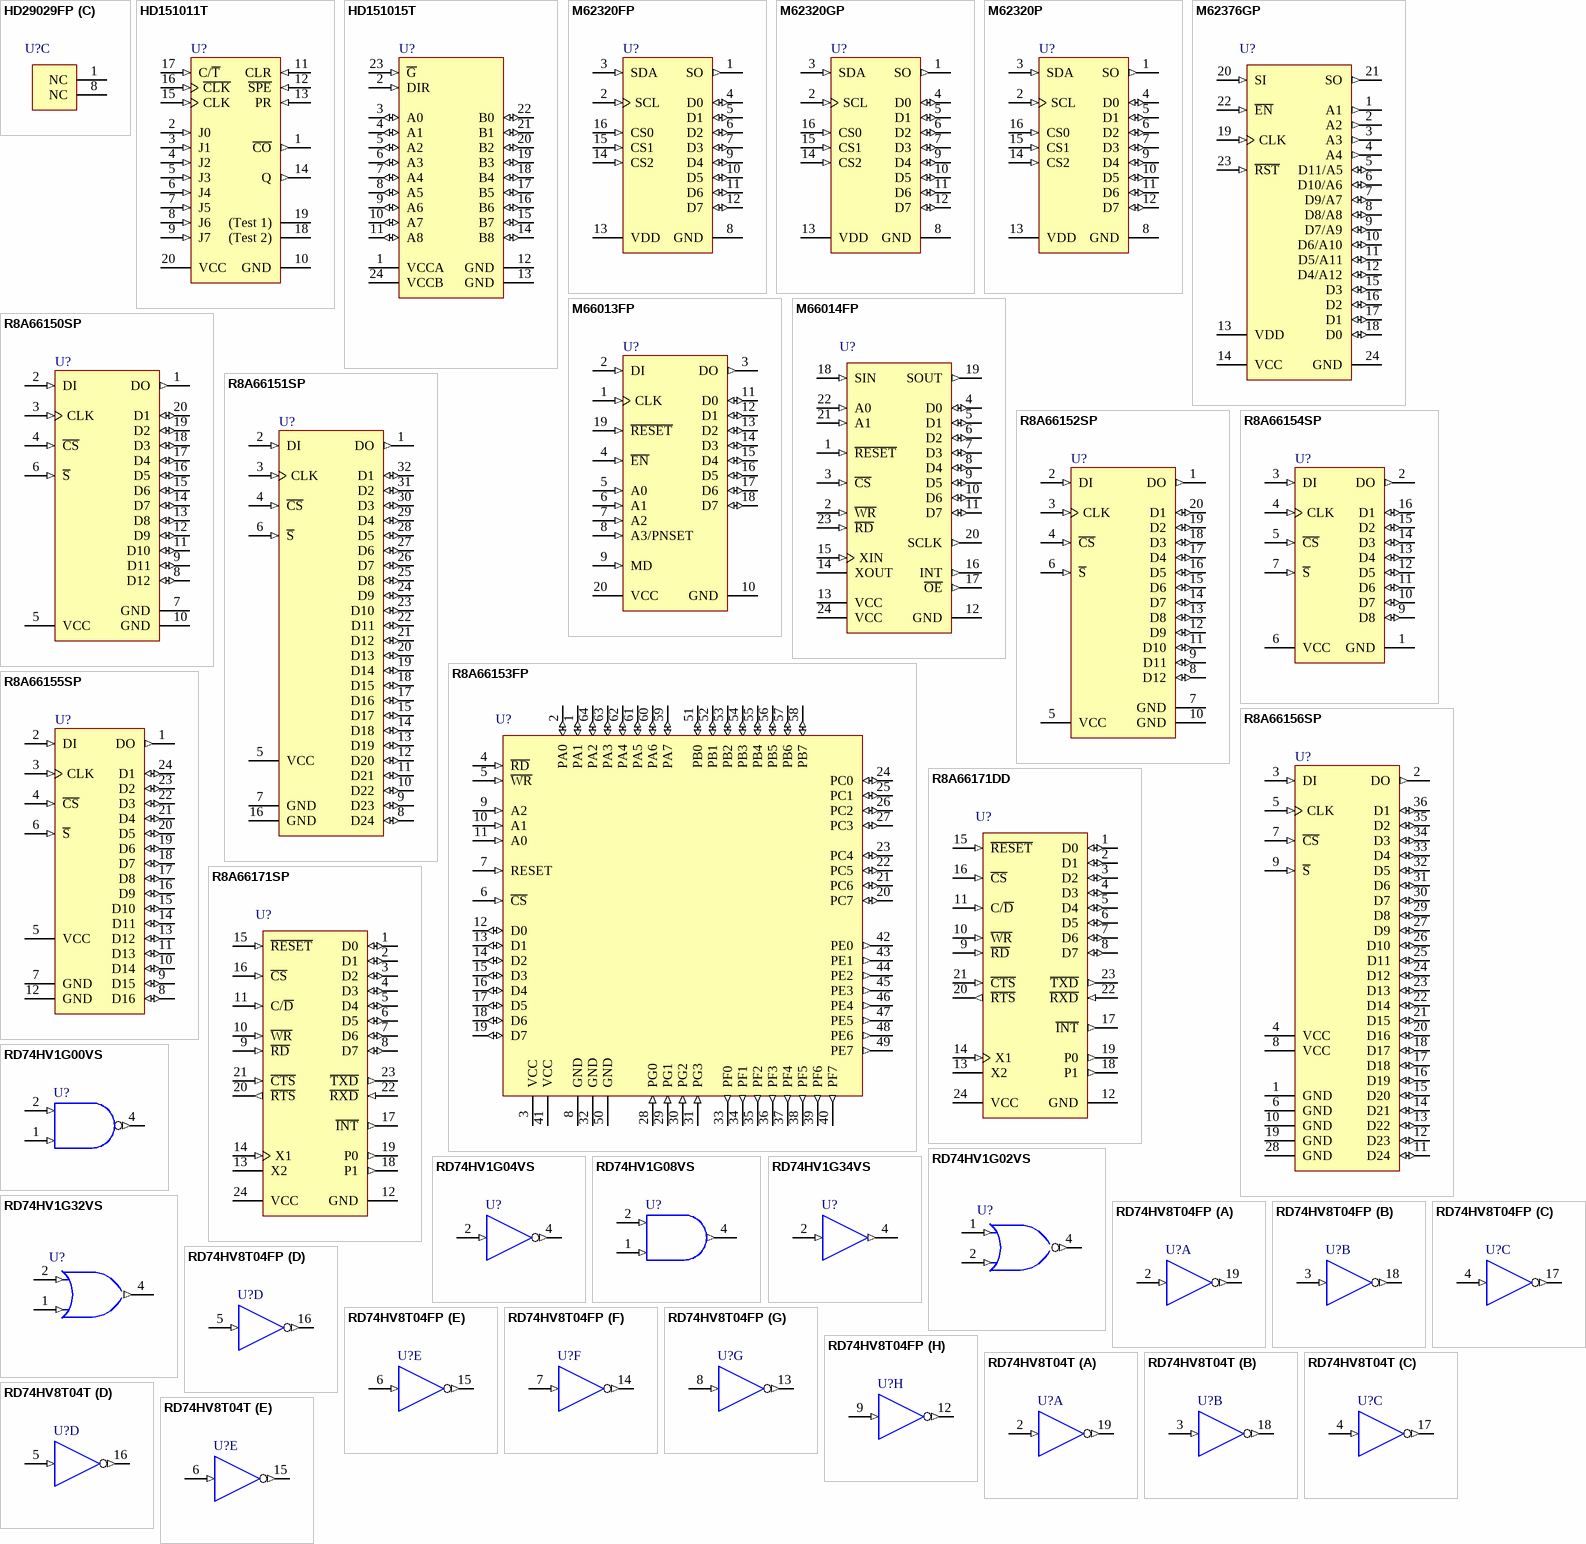
[diagram p48: symbols HD29029FP to RD74HV8T04T]

## HD29029FP
designator U?
Dual CCD Drivers; Published: 10-Feb-2010; DatasheetVersion: Rev.2.00, Jul-2004; PackageVersion: Sep-2005; PackageReference: PRSP0008DE-B; Publisher: Altium Limited; PackageDescription: 8-Pin Plastic Small Outline Package 1.27 mm Pitch; Code_JEITA: P-SOP8-4.4x4.85-1.27; ComponentLink1Description: Manufacturer Link; ComponentLink1URL: http://sg.renesas.com/fmwk.jsp?cnt=ccd_mos_drivers_root.jsp&fp=/products/standard_ic/general_purpose_logic/interface/ccd_mos_drivers/; ComponentLink2Description: Datasheet; ComponentLink2URL: http://documentation.renesas.com/eng/products/logic/rej03d0303_hd29029.pdf; ComponentLink3Description: Packaging Specification; ComponentLink3URL: http://sg.renesas.com/media/products/common_info/package/pdf/ic/code/prsp0008de_b.pdf
footprint PRSP0008DE-B_N (SOP, 8-Leads, Body 4.85x4.4mm, Pitch 1.27mm, IPC Medium Density)
footprint PRSP0008DE-B_L (SOP, 8-Leads, Body 4.85x4.4mm, Pitch 1.27mm, IPC High Density)
footprint PRSP0008DE-B_M (SOP, 8-Leads, Body 4.85x4.4mm, Pitch 1.27mm, IPC Low Density)
pins on every part: 3 GND (power) hidden, 6 VCC (power) hidden
part A pins: 2 1A (in), 7 1Y (out)
part B pins: 4 2A (in), 5 2Y (out)
part C pins: 1 NC, 8 NC

## HD151011T
designator U?
Dual BCD Programmable Counter with Synchronous Preset Enable; Published: 10-Feb-2010; DatasheetVersion: Rev.2.00, Jul-2004; PackageVersion: Sep-2005; PackageReference: PTSP0020JB-A; Publisher: Altium Limited; PackageDescription: 20-Pin Plastic Thin Small Outline Package, 6.5 x 4.4 mm Body, 0.65 mm Pitch; Code_JEITA: P-TSSOP20-4.4x6.5-0.65; ComponentLink1Description: Manufacturer Link; ComponentLink1URL: http://sg.renesas.com/fmwk.jsp?cnt=lcd_panel_root.jsp&fp=/products/standard_ic/general_purpose_logic/multi_purpose_assp_logic/lcd_panel/; ComponentLink2Description: Datasheet; ComponentLink2URL: http://documentation.renesas.com/eng/products/logic/rej03d0298_hd151011.pdf; ComponentLink3Description: Packaging Specification; ComponentLink3URL: http://sg.renesas.com/media/products/common_info/package/pdf/ic/code/ptsp0020jb_a.pdf
footprint PTSP0020JB-A_N (TSOP, 20-Leads, Body 6.5x4.4mm, Pitch 0.65mm, IPC Medium Density)
footprint PTSP0020JB-A_L (TSOP, 20-Leads, Body 6.5x4.4mm, Pitch 0.65mm, IPC High Density)
footprint PTSP0020JB-A_M (TSOP, 20-Leads, Body 6.5x4.4mm, Pitch 0.65mm, IPC Low Density)
pins: 1 ~{CO} (out), 2 J0 (in), 3 J1 (in), 4 J2 (in), 5 J3 (in), 6 J4 (in), 7 J5 (in), 8 J6 (in), 9 J7 (in), 10 GND (power), 11 CLR (in), 12 ~{SPE} (in), 13 PR (in), 14 Q (out), 15 CLK (in), 16 ~{CLK} (in), 17 C/~{T} (in), 18 (Test 2), 19 (Test 1), 20 VCC (power)

## HD151015T
designator U?
9-bit Level Shifter / Transceiver with 3-State Outputs; Published: 10-Feb-2010; DatasheetVersion: Rev.5.00, May-2006; PackageVersion: Sep-2005; PackageReference: PTSP0024JB-A; Publisher: Altium Limited; PackageDescription: 24-Pin Plastic Thin Small Outline Package, 7.8 x 4.4 mm Body, 0.65 mm Pitch; Code_JEITA: P-TSSOP24-4.4x7.8-0.65; ComponentLink1Description: Manufacturer Link; ComponentLink1URL: http://sg.renesas.com/fmwk.jsp?cnt=level_shifter_root.jsp&fp=/products/standard_ic/general_purpose_logic/multi_purpose_assp_logic/level_shifter/; ComponentLink2Description: Datasheet; ComponentLink2URL: http://documentation.renesas.com/eng/products/logic/rej03d0300_hd151015.pdf; ComponentLink3Description: Packaging Specification; ComponentLink3URL: http://sg.renesas.com/media/products/common_info/package/pdf/ic/code/ptsp0024jb_a.pdf
footprint PTSP0024JB-A_N (TSOP, 24-Leads, Body 7.8x4.4mm, Pitch 0.65mm, IPC Medium Density)
footprint PTSP0024JB-A_L (TSOP, 24-Leads, Body 7.8x4.4mm, Pitch 0.65mm, IPC High Density)
footprint PTSP0024JB-A_M (TSOP, 24-Leads, Body 7.8x4.4mm, Pitch 0.65mm, IPC Low Density)
pins: 1 VCCA (power), 2 DIR (in), 3 A0 (io), 4 A1 (io), 5 A2 (io), 6 A3 (io), 7 A4 (io), 8 A5 (io), 9 A6 (io), 10 A7 (io), 11 A8 (io), 12 GND (power), 13 GND (power), 14 B8 (io), 15 B7 (io), 16 B6 (io), 17 B5 (io), 18 B4 (io), 19 B3 (io), 20 B2 (io), 21 B1 (io), 22 B0 (io), 23 ~{G} (in), 24 VCCB (power)

## M62320FP
designator U?
8-bit I/O Expander for I2C BUS; Published: 10-Feb-2010; DatasheetVersion: Rev.3.00, Mar-2008; PackageVersion: Sep-2005; PackageReference: PRSP0016DE-A; Publisher: Altium Limited; PackageDescription: 16-Pin Plastic Small Outline Package 1.27 mm Pitch; Code_JEITA: P-SOP16-5.3x10.1-1.27; ComponentLink1Description: Manufacturer Link; ComponentLink1URL: http://sg.renesas.com/fmwk.jsp?cnt=io_expander_root.jsp&fp=/products/standard_ic/general_purpose_logic/multi_purpose_assp_logic/io_expander/; ComponentLink2Description: Datasheet; ComponentLink2URL: http://documentation.renesas.com/eng/products/linear/rej03d0863_m62320pds.pdf; ComponentLink3Description: Packaging Specification; ComponentLink3URL: http://sg.renesas.com/media/products/common_info/package/pdf/ic/code/prsp0016de_a.pdf
footprint PRSP0016DE-A_N (SOP, 16-Leads, Body 10.1x5.3mm, Pitch 1.27mm, IPC Medium Density)
footprint PRSP0016DE-A_L (SOP, 16-Leads, Body 10.1x5.3mm, Pitch 1.27mm, IPC High Density)
footprint PRSP0016DE-A_M (SOP, 16-Leads, Body 10.1x5.3mm, Pitch 1.27mm, IPC Low Density)
pins: 1 SO (out), 2 SCL (in), 3 SDA (in), 4 D0 (io), 5 D1 (io), 6 D2 (io), 7 D3 (io), 8 GND (power), 9 D4 (io), 10 D5 (io), 11 D6 (io), 12 D7 (io), 13 VDD (power), 14 CS2 (in), 15 CS1 (in), 16 CS0 (in)

## M62320GP
designator U?
8-bit I/O Expander for I2C BUS; Published: 10-Feb-2010; DatasheetVersion: Rev.3.00, Mar-2008; PackageVersion: Sep-2005; PackageReference: PRDP0016AA-A; Publisher: Altium Limited; PackageDescription: 16-Pin Plastic DIP, 19 x 6.3 mm Body, 7.62 mm Row Spacing, Pitch 2.54 mm; Code_JEITA: P-DIP16-6.3x19-2.54; ComponentLink1Description: Manufacturer Link; ComponentLink1URL: http://sg.renesas.com/fmwk.jsp?cnt=io_expander_root.jsp&fp=/products/standard_ic/general_purpose_logic/multi_purpose_assp_logic/io_expander/; ComponentLink2Description: Datasheet; ComponentLink2URL: http://documentation.renesas.com/eng/products/linear/rej03d0863_m62320pds.pdf; ComponentLink3Description: Packaging Specification; ComponentLink3URL: http://sg.renesas.com/media/products/common_info/package/pdf/ic/code/prdp0016aa_a.pdf
footprint PRDP0016AA-A (DIP, 16-Leads, Row Spacing 7.62mm, Pitch 2.54mm, Body 19x6.3mm)
pins: 1 SO (out), 2 SCL (in), 3 SDA (in), 4 D0 (io), 5 D1 (io), 6 D2 (io), 7 D3 (io), 8 GND (power), 9 D4 (io), 10 D5 (io), 11 D6 (io), 12 D7 (io), 13 VDD (power), 14 CS2 (in), 15 CS1 (in), 16 CS0 (in)

## M62320P
designator U?
8-bit I/O Expander for I2C BUS; Published: 10-Feb-2010; DatasheetVersion: Rev.3.00, Mar-2008; PackageVersion: Sep-2005; PackageReference: PRDP0016AA-A; Publisher: Altium Limited; PackageDescription: 16-Pin Plastic DIP, 19 x 6.3 mm Body, 7.62 mm Row Spacing, Pitch 2.54 mm; Code_JEITA: P-DIP16-6.3x19-2.54; ComponentLink1Description: Manufacturer Link; ComponentLink1URL: http://sg.renesas.com/fmwk.jsp?cnt=io_expander_root.jsp&fp=/products/standard_ic/general_purpose_logic/multi_purpose_assp_logic/io_expander/; ComponentLink2Description: Datasheet; ComponentLink2URL: http://documentation.renesas.com/eng/products/linear/rej03d0863_m62320pds.pdf; ComponentLink3Description: Packaging Specification; ComponentLink3URL: http://sg.renesas.com/media/products/common_info/package/pdf/ic/code/prdp0016aa_a.pdf
footprint PRDP0016AA-A (DIP, 16-Leads, Row Spacing 7.62mm, Pitch 2.54mm, Body 19x6.3mm)
pins: 1 SO (out), 2 SCL (in), 3 SDA (in), 4 D0 (io), 5 D1 (io), 6 D2 (io), 7 D3 (io), 8 GND (power), 9 D4 (io), 10 D5 (io), 11 D6 (io), 12 D7 (io), 13 VDD (power), 14 CS2 (in), 15 CS1 (in), 16 CS0 (in)

## M62376GP
designator U?
8-bit 12ch D/A Converter IC with Built-in 12-bit I/O Expander; Published: 10-Feb-2010; DatasheetVersion: Rev.3.00, Mar-2008; PackageVersion: Sep-2005; PackageReference: PLSP0024JA-A; Publisher: Altium Limited; PackageDescription: 24-Pin Plastic Low Profile Shrink SOP, 7.8 x 5.6 x 1.15 mm Body, 0.65 mm Pitch; Code_JEITA: P-LSSOP24-5.6x7.8-0.65; ComponentLink1Description: Manufacturer Link; ComponentLink1URL: http://sg.renesas.com/fmwk.jsp?cnt=io_expander_root.jsp&fp=/products/standard_ic/general_purpose_logic/multi_purpose_assp_logic/io_expander/; ComponentLink2Description: Datasheet; ComponentLink2URL: http://documentation.renesas.com/eng/products/linear/rej03d0881_m62376gpds.pdf; ComponentLink3Description: Packaging Specification; ComponentLink3URL: http://sg.renesas.com/media/products/common_info/package/pdf/ic/code/plsp0024ja_a.pdf
footprint PLSP0024JA-A_N (SOP, 24-Leads, Body 7.8x5.6mm, Pitch 0.65mm, IPC Medium Density)
footprint PLSP0024JA-A_L (SOP, 24-Leads, Body 7.8x5.6mm, Pitch 0.65mm, IPC High Density)
footprint PLSP0024JA-A_M (SOP, 24-Leads, Body 7.8x5.6mm, Pitch 0.65mm, IPC Low Density)
pins: 1 A1 (out), 2 A2 (out), 3 A3 (out), 4 A4 (out), 5 D11/A5 (io), 6 D10/A6 (io), 7 D9/A7 (io), 8 D8/A8 (io), 9 D7/A9 (io), 10 D6/A10 (io), 11 D5/A11 (io), 12 D4/A12 (io), 13 VDD (power), 14 VCC (power), 15 D3 (io), 16 D2 (io), 17 D1 (io), 18 D0 (io), 19 CLK (in), 20 SI (in), 21 SO (out), 22 ~{EN} (in), 23 ~{RST} (in), 24 GND (power)

## M66013FP
designator U?
8-bit I/O Expander with Address Input; Published: 10-Feb-2010; DatasheetVersion: Rev.2.00, Mar-2008; PackageVersion: Sep-2005; PackageReference: PRSP0020DA-A; Publisher: Altium Limited; PackageDescription: 20-Pin Plastic Small Outline Package, 12.6 x 5.3 x 1.8 mm Body, 1.27 mm Pitch; Code_JEITA: P-SOP20-5.3x12.6-1.27; ComponentLink1Description: Manufacturer Link; ComponentLink1URL: http://sg.renesas.com/fmwk.jsp?cnt=io_expander_root.jsp&fp=/products/standard_ic/general_purpose_logic/multi_purpose_assp_logic/io_expander/; ComponentLink2Description: Datasheet; ComponentLink2URL: http://documentation.renesas.com/eng/products/logic/rej03f0266_m66013fpds.pdf; ComponentLink3Description: Packaging Specification; ComponentLink3URL: http://sg.renesas.com/media/products/common_info/package/pdf/ic/code/prsp0020da_a.pdf
footprint PRSP0020DA-A_N (SOP, 20-Leads, Body 12.6x5.3mm, Pitch 1.27mm, IPC Medium Density)
footprint PRSP0020DA-A_L (SOP, 20-Leads, Body 12.6x5.3mm, Pitch 1.27mm, IPC High Density)
footprint PRSP0020DA-A_M (SOP, 20-Leads, Body 12.6x5.3mm, Pitch 1.27mm, IPC Low Density)
pins: 1 CLK (in), 2 DI (in), 3 DO (out), 4 ~{EN} (in), 5 A0 (in), 6 A1 (in), 7 A2 (in), 8 A3/PNSET (in), 9 MD (in), 10 GND (power), 11 D0 (io), 12 D1 (io), 13 D2 (io), 14 D3 (io), 15 D4 (io), 16 D5 (io), 17 D6 (io), 18 D7 (io), 19 ~{RESET} (in), 20 VCC (power)

## M66014FP
designator U?
16-bit Serial Bus Controller; Published: 10-Feb-2010; DatasheetVersion: Rev.2.00, Mar-2008; PackageVersion: 2008; PackageReference: 24P2N-B; Publisher: Altium Limited; PackageDescription: 24-Pin Small Outline Package, 300 mil, 1.27 mm Pitch; Code_JEITA: SOP24-P-300-1.27; ComponentLink1Description: Manufacturer Link; ComponentLink1URL: http://sg.renesas.com/fmwk.jsp?cnt=serial_communication_root.jsp&fp=/products/assp/peripherals_for_pcs_and_mpumcu/serial_communication; ComponentLink2Description: Datasheet; ComponentLink2URL: http://documentation.renesas.com/eng/products/logic/rej03f0265_m66014fpds.pdf
footprint 24P2N-B_N (SOP, 24-Leads, Body 15x5.3mm, Pitch 1.27mm, IPC Medium Density)
footprint 24P2N-B_L (SOP, 24-Leads, Body 15x5.3mm, Pitch 1.27mm, IPC High Density)
footprint 24P2N-B_M (SOP, 24-Leads, Body 15x5.3mm, Pitch 1.27mm, IPC Low Density)
pins: 1 ~{RESET} (in), 2 ~{WR} (in), 3 ~{CS} (in), 4 D0 (io), 5 D1 (io), 6 D2 (io), 7 D3 (io), 8 D4 (io), 9 D5 (io), 10 D6 (io), 11 D7 (io), 12 GND (power), 13 VCC (power), 14 XOUT, 15 XIN (in), 16 INT (out), 17 ~{OE} (out), 18 SIN (in), 19 SOUT (out), 20 SCLK (out), 21 A1 (in), 22 A0 (in), 23 ~{RD} (in), 24 VCC (power)

## R8A66150SP
designator U?
12-bit I/O Expander; Published: 10-Feb-2010; DatasheetVersion: Rev.1.00, Jan-2008; PackageVersion: 2008; PackageReference: PRSP0020DG-A; Publisher: Altium Limited; PackageDescription: 20-Pin Small Outline Integrated Circuit, 12.8 x 7.5 mm Body, 1.27 mm Pitch; Code_IPC: SOIC127P1030-20; ComponentLink1Description: Manufacturer Link; ComponentLink1URL: http://sg.renesas.com/fmwk.jsp?cnt=io_expander_root.jsp&fp=/products/standard_ic/general_purpose_logic/multi_purpose_assp_logic/io_expander/; ComponentLink2Description: Datasheet; ComponentLink2URL: http://documentation.renesas.com/eng/products/assp/rej03f0257_r8a66150ds.pdf
footprint PRSP0020DG-A_N (SOIC, 20-Leads, Body 12.8x7.5mm, Pitch 1.27mm, IPC Medium Density)
footprint PRSP0020DG-A_L (SOIC, 20-Leads, Body 12.8x7.5mm, Pitch 1.27mm, IPC High Density)
footprint PRSP0020DG-A_M (SOIC, 20-Leads, Body 12.8x7.5mm, Pitch 1.27mm, IPC Low Density)
pins: 1 DO (out), 2 DI (in), 3 CLK (in), 4 ~{CS} (in), 5 VCC (power), 6 ~{S} (in), 7 GND (power), 8 D12 (io), 9 D11 (io), 10 GND (power), 11 D10 (io), 12 D9 (io), 13 D8 (io), 14 D7 (io), 15 D6 (io), 16 D5 (io), 17 D4 (io), 18 D3 (io), 19 D2 (io), 20 D1 (io)

## R8A66151SP
designator U?
24-bit I/O Expander; Published: 10-Feb-2010; DatasheetVersion: Rev.1.00, Jan-2008; PackageVersion: 2008; PackageReference: PRSP0032DD-A; Publisher: Altium Limited; PackageDescription: 32-Pin Small Outline Package, 20.5 x 7.5 mm Body, 1.27 mm Pitch; ComponentLink1Description: Manufacturer Link; ComponentLink1URL: http://sg.renesas.com/fmwk.jsp?cnt=io_expander_root.jsp&fp=/products/standard_ic/general_purpose_logic/multi_purpose_assp_logic/io_expander/; ComponentLink2Description: Datasheet; ComponentLink2URL: http://documentation.renesas.com/eng/products/assp/rej03f0258_r8a66151ds.pdf
footprint PRSP0032DD-A_N (SOIC, 32-Leads, Body 20.5x7.5mm, Pitch 1.27mm, IPC Medium Density)
footprint PRSP0032DD-A_L (SOIC, 32-Leads, Body 20.5x7.5mm, Pitch 1.27mm, IPC High Density)
footprint PRSP0032DD-A_M (SOIC, 32-Leads, Body 20.5x7.5mm, Pitch 1.27mm, IPC Low Density)
pins: 1 DO (out), 2 DI (in), 3 CLK (in), 4 ~{CS} (in), 5 VCC (power), 6 ~{S} (in), 7 GND (power), 8 D24 (io), 9 D23 (io), 10 D22 (io), 11 D21 (io), 12 D20 (io), 13 D19 (io), 14 D18 (io), 15 D17 (io), 16 GND (power), 17 D16 (io), 18 D15 (io), 19 D14 (io), 20 D13 (io), 21 D12 (io), 22 D11 (io), 23 D10 (io), 24 D9 (io), 25 D8 (io), 26 D7 (io), 27 D6 (io), 28 D5 (io), 29 D4 (io), 30 D3 (io), 31 D2 (io), 32 D1 (io)

## R8A66152SP
designator U?
12-bit I/O Expander with LED Drive Function; Published: 10-Feb-2010; DatasheetVersion: Rev.1.00, Jan-2008; PackageVersion: 2008; PackageReference: PRSP0020DG-A; Publisher: Altium Limited; PackageDescription: 20-Pin Small Outline Integrated Circuit, 12.8 x 7.5 mm Body, 1.27 mm Pitch; Code_IPC: SOIC127P1030-20; ComponentLink1Description: Manufacturer Link; ComponentLink1URL: http://sg.renesas.com/fmwk.jsp?cnt=io_expander_root.jsp&fp=/products/standard_ic/general_purpose_logic/multi_purpose_assp_logic/io_expander/; ComponentLink2Description: Datasheet; ComponentLink2URL: http://documentation.renesas.com/eng/products/assp/rej03f0259_r8a66152ds.pdf
footprint PRSP0020DG-A_N (SOIC, 20-Leads, Body 12.8x7.5mm, Pitch 1.27mm, IPC Medium Density)
footprint PRSP0020DG-A_L (SOIC, 20-Leads, Body 12.8x7.5mm, Pitch 1.27mm, IPC High Density)
footprint PRSP0020DG-A_M (SOIC, 20-Leads, Body 12.8x7.5mm, Pitch 1.27mm, IPC Low Density)
pins: 1 DO (out), 2 DI (in), 3 CLK (in), 4 ~{CS} (in), 5 VCC (power), 6 ~{S} (in), 7 GND (power), 8 D12 (io), 9 D11 (io), 10 GND (power), 11 D10 (io), 12 D9 (io), 13 D8 (io), 14 D7 (io), 15 D6 (io), 16 D5 (io), 17 D4 (io), 18 D3 (io), 19 D2 (io), 20 D1 (io)

## R8A66153FP
designator U?
Programmable Buffered I/O Expander; Published: 10-Feb-2010; DatasheetVersion: Rev.1.00, Jan-2008; PackageVersion: 2008; PackageReference: PLQP0064KD-A; Publisher: Altium Limited; PackageDescription: 64-Pin Plastic Low Profile QFP, 10 x 10 x 1.4 mm Body, 0.5 mm Pitch; Code_IPC: SQFP50P1200X1200-64; ComponentLink1Description: Manufacturer Link; ComponentLink1URL: http://sg.renesas.com/fmwk.jsp?cnt=io_expander_root.jsp&fp=/products/standard_ic/general_purpose_logic/multi_purpose_assp_logic/io_expander/; ComponentLink2Description: Datasheet; ComponentLink2URL: http://documentation.renesas.com/eng/products/assp/rej03f0260_r8A66153ds.pdf
footprint PLQP0064KD-A_N (Shrink QFP, 64-Leads, Body 10x10mm, Pitch 0.5mm, IPC Medium Density)
footprint PLQP0064KD-A_L (Shrink QFP, 64-Leads, Body 10x10mm, Pitch 0.5mm, IPC High Density)
footprint PLQP0064KD-A_M (Shrink QFP, 64-Leads, Body 10x10mm, Pitch 0.5mm, IPC Low Density)
pins: 1 PA1 (io), 2 PA0 (io), 3 VCC (power), 4 ~{RD} (in), 5 ~{WR} (in), 6 ~{CS} (in), 7 RESET (in), 8 GND (power), 9 A2 (in), 10 A1 (in), 11 A0 (in), 12 D0 (io), 13 D1 (io), 14 D2 (io), 15 D3 (io), 16 D4 (io), 17 D5 (io), 18 D6 (io), 19 D7 (io), 20 PC7 (io), 21 PC6 (io), 22 PC5 (io), 23 PC4 (io), 24 PC0 (io), 25 PC1 (io), 26 PC2 (io), 27 PC3 (io), 28 PG0 (in), 29 PG1 (in), 30 PG2 (in), 31 PG3 (in), 32 GND (power), 33 PF0 (out), 34 PF1 (out), 35 PF2 (out), 36 PF3 (out), 37 PF4 (out), 38 PF5 (out), 39 PF6 (out), 40 PF7 (out), 41 VCC (power), 42 PE0 (out), 43 PE1 (out), 44 PE2 (out), 45 PE3 (out), 46 PE4 (out), 47 PE5 (out), 48 PE6 (out), 49 PE7 (out), 50 GND (power), 51 PB0 (io), 52 PB1 (io), 53 PB2 (io), 54 PB3 (io), 55 PB4 (io), 56 PB5 (io), 57 PB6 (io), 58 PB7 (io), 59 PA7 (io), 60 PA6 (io), 61 PA5 (io), 62 PA4 (io), 63 PA3 (io), 64 PA2 (io)

## R8A66154SP
designator U?
8-bit I/O Expander with LED Drive Function; Published: 10-Feb-2010; DatasheetVersion: Rev.1.00, Dec-2009; PackageVersion: 2009; PackageReference: PRSP0016DJ-A; Publisher: Altium Limited; PackageDescription: 16-Pin Plastic Small Outline Integrated Circuit, 9.9 x 3.9 mm Body, 1.27 mm Pitch; Code_IPC: SOIC127P600-16; ComponentLink1Description: Manufacturer Link; ComponentLink1URL: http://sg.renesas.com/fmwk.jsp?cnt=io_expander_root.jsp&fp=/products/standard_ic/general_purpose_logic/multi_purpose_assp_logic/io_expander/; ComponentLink2Description: Datasheet; ComponentLink2URL: http://documentation.renesas.com/eng/products/assp/rej03f0285_r8a66154sp_ds.pdf
footprint PRSP0016DJ-A_N (SOIC, 16-Leads, Body 9.9x3.9mm, Pitch 1.27mm, IPC Medium Density)
footprint PRSP0016DJ-A_L (SOIC, 16-Leads, Body 9.9x3.9mm, Pitch 1.27mm, IPC High Density)
footprint PRSP0016DJ-A_M (SOIC, 16-Leads, Body 9.9x3.9mm, Pitch 1.27mm, IPC Low Density)
pins: 1 GND (power), 2 DO (out), 3 DI (in), 4 CLK (in), 5 ~{CS} (in), 6 VCC (power), 7 ~{S} (in), 9 D8 (io), 10 D7 (io), 11 D6 (io), 12 D5 (io), 13 D4 (io), 14 D3 (io), 15 D2 (io), 16 D1 (io)

## R8A66155SP
designator U?
16-bit I/O Expander with LED Drive Function; Published: 10-Feb-2010; DatasheetVersion: Rev.1.00, Dec-2009; PackageVersion: 2009; PackageReference: PRSP0024DF-A; Publisher: Altium Limited; PackageDescription: 24-Pin Small Outline Integrated Circuit, 15.4 x 7.5 mm Body, 1.27 mm Pitch; ComponentLink1Description: Manufacturer Link; ComponentLink1URL: http://sg.renesas.com/fmwk.jsp?cnt=io_expander_root.jsp&fp=/products/standard_ic/general_purpose_logic/multi_purpose_assp_logic/io_expander/; ComponentLink2Description: Datasheet; ComponentLink2URL: http://documentation.renesas.com/eng/products/assp/rej03f0286_r8a66155sp_ds.pdf
footprint PRSP0024DF-A_N (SOIC, 24-Leads, Body 15.4x7.5mm, Pitch 1.27mm, IPC Medium Density)
footprint PRSP0024DF-A_L (SOIC, 24-Leads, Body 15.4x7.5mm, Pitch 1.27mm, IPC High Density)
footprint PRSP0024DF-A_M (SOIC, 24-Leads, Body 15.4x7.5mm, Pitch 1.27mm, IPC Low Density)
pins: 1 DO (out), 2 DI (in), 3 CLK (in), 4 ~{CS} (in), 5 VCC (power), 6 ~{S} (in), 7 GND (power), 8 D16 (io), 9 D15 (io), 10 D14 (io), 11 D13 (io), 12 GND (power), 13 D12 (io), 14 D11 (io), 15 D10 (io), 16 D9 (io), 17 D8 (io), 18 D7 (io), 19 D6 (io), 20 D5 (io), 21 D4 (io), 22 D3 (io), 23 D2 (io), 24 D1 (io)

## R8A66156SP
designator U?
24-bit I/O Expander with LED Drive Function; Published: 10-Feb-2010; DatasheetVersion: Rev.1.00, Sep-2009; PackageVersion: 2008; PackageReference: PRSP0036GC-A; Publisher: Altium Limited; PackageDescription: 36-Pin Plastic SOP, 15.88 x 7.49 x 2.29 mm Body, 0.8 mm Pitch; ComponentLink1Description: Manufacturer Link; ComponentLink1URL: http://sg.renesas.com/fmwk.jsp?cnt=io_expander_root.jsp&fp=/products/standard_ic/general_purpose_logic/multi_purpose_assp_logic/io_expander/; ComponentLink2Description: Datasheet; ComponentLink2URL: http://documentation.renesas.com/eng/products/assp/rej03f0283_r8a66156sp.pdf
footprint PRSP0036GC-A_N (SOP, 36-Leads, Body 15.88x7.49mm, Pitch 0.8mm, IPC Medium Density)
footprint PRSP0036GC-A_L (SOP, 36-Leads, Body 15.88x7.49mm, Pitch 0.8mm, IPC High Density)
footprint PRSP0036GC-A_M (SOP, 36-Leads, Body 15.88x7.49mm, Pitch 0.8mm, IPC Low Density)
pins: 1 GND (power), 2 DO (out), 3 DI (in), 4 VCC (power), 5 CLK (in), 6 GND (power), 7 ~{CS} (in), 8 VCC (power), 9 ~{S} (in), 10 GND (power), 11 D24 (io), 12 D23 (io), 13 D22 (io), 14 D21 (io), 15 D20 (io), 16 D19 (io), 17 D18 (io), 18 D17 (io), 19 GND (power), 20 D16 (io), 21 D15 (io), 22 D14 (io), 23 D13 (io), 24 D12 (io), 25 D11 (io), 26 D10 (io), 27 D9 (io), 28 GND (power), 29 D8 (io), 30 D7 (io), 31 D6 (io), 32 D5 (io), 33 D4 (io), 34 D3 (io), 35 D2 (io), 36 D1 (io)

## R8A66171DD
designator U?
Advanced Asynchronous Receiver & Transmitter (UART); Published: 10-Feb-2010; DatasheetVersion: Rev.1.00, Feb-2008; PackageVersion: 2008; PackageReference: PRDP0024AF-A; Publisher: Altium Limited; PackageDescription: 24-Pin Plastic DIP, 31.75 x 6.55 mm Body, 7.62 mm Row Spacing, Pitch 2.54 mm; ComponentLink1Description: Manufacturer Link; ComponentLink1URL: http://sg.renesas.com/fmwk.jsp?cnt=serial_communication_root.jsp&fp=/products/assp/peripherals_for_pcs_and_mpumcu/serial_communication; ComponentLink2Description: Datasheet; ComponentLink2URL: http://documentation.renesas.com/eng/products/assp/rej03f0269_R8A66171ds.pdf
footprint PRDP0024AF-A (DIP, 24-Leads, Row Spacing 7.62mm, Pitch 2.54mm, Body 31.75x6.54mm)
pins: 1 D0 (io), 2 D1 (io), 3 D2 (io), 4 D3 (io), 5 D4 (io), 6 D5 (io), 7 D6 (io), 8 D7 (io), 9 ~{RD} (in), 10 ~{WR} (in), 11 C/~{D} (in), 12 GND (power), 13 X2, 14 X1 (in), 15 ~{RESET} (in), 16 ~{CS} (in), 17 ~{INT} (out), 18 P1 (out), 19 P0 (out), 20 ~{RTS} (out), 21 ~{CTS} (in), 22 ~{RXD} (in), 23 ~{TXD} (out), 24 VCC (power)

## R8A66171SP
designator U?
Advanced Asynchronous Receiver & Transmitter (UART); Published: 10-Feb-2010; DatasheetVersion: Rev.1.00, Feb-2008; PackageVersion: 2009; PackageReference: PRSP0024DF-A; Publisher: Altium Limited; PackageDescription: 24-Pin Small Outline Integrated Circuit, 15.4 x 7.5 mm Body, 1.27 mm Pitch; ComponentLink1Description: Manufacturer Link; ComponentLink1URL: http://sg.renesas.com/fmwk.jsp?cnt=serial_communication_root.jsp&fp=/products/assp/peripherals_for_pcs_and_mpumcu/serial_communication; ComponentLink2Description: Datasheet; ComponentLink2URL: http://documentation.renesas.com/eng/products/assp/rej03f0269_R8A66171ds.pdf
footprint PRSP0024DF-A_N (SOIC, 24-Leads, Body 15.4x7.5mm, Pitch 1.27mm, IPC Medium Density)
footprint PRSP0024DF-A_L (SOIC, 24-Leads, Body 15.4x7.5mm, Pitch 1.27mm, IPC High Density)
footprint PRSP0024DF-A_M (SOIC, 24-Leads, Body 15.4x7.5mm, Pitch 1.27mm, IPC Low Density)
pins: 1 D0 (io), 2 D1 (io), 3 D2 (io), 4 D3 (io), 5 D4 (io), 6 D5 (io), 7 D6 (io), 8 D7 (io), 9 ~{RD} (in), 10 ~{WR} (in), 11 C/~{D} (in), 12 GND (power), 13 X2, 14 X1 (in), 15 ~{RESET} (in), 16 ~{CS} (in), 17 ~{INT} (out), 18 P1 (out), 19 P0 (out), 20 ~{RTS} (out), 21 ~{CTS} (in), 22 ~{RXD} (in), 23 ~{TXD} (out), 24 VCC (power)

## RD74HV1G00VS
designator U?
High-Voltage 2-Input NAND Gate; Published: 10-Feb-2010; DatasheetVersion: Rev.2.00, Jul-2009; PackageVersion: Sep-2005; PackageReference: PUSN0005KA-A; Publisher: Altium Limited; PackageDescription: 5-Pin Dual Lead-Flat Package 0.5 mm Pitch (VSON-5); Code_JEITA: P-USON5-1.2x1.6-0.50; ComponentLink1Description: Manufacturer Link; ComponentLink1URL: http://sg.renesas.com/fmwk.jsp?cnt=rd74hv1g_series_root.jsp&fp=/products/standard_ic/general_purpose_logic/high_voltage_logic/rd74hv1g/; ComponentLink2Description: Datasheet; ComponentLink2URL: http://documentation.renesas.com/eng/products/logic/rej03d0885_rd74hv1g00ds.pdf; ComponentLink3Description: Packaging Specification; ComponentLink3URL: http://sg.renesas.com/media/products/common_info/package/pdf/ic/code/pusn0005ka_a.pdf
footprint PUSN0005KA-A (SOP, 5-Flat Leads, Body 1.6x1.2x0.55mm, Pitch 0.5mm, Renesas Recommended)
pins: 1 IN B (in), 2 IN A (in), 3 GND (power) hidden, 4 OUT Y (out), 5 VCC (power) hidden

## RD74HV1G02VS
designator U?
High-Voltage 2-Input NOR Gate; Published: 10-Feb-2010; DatasheetVersion: Rev.2.00, Jul-2009; PackageVersion: Sep-2005; PackageReference: PUSN0005KA-A; Publisher: Altium Limited; PackageDescription: 5-Pin Dual Lead-Flat Package 0.5 mm Pitch (VSON-5); Code_JEITA: P-USON5-1.2x1.6-0.50; ComponentLink1Description: Manufacturer Link; ComponentLink1URL: http://sg.renesas.com/fmwk.jsp?cnt=rd74hv1g_series_root.jsp&fp=/products/standard_ic/general_purpose_logic/high_voltage_logic/rd74hv1g/; ComponentLink2Description: Datasheet; ComponentLink2URL: http://documentation.renesas.com/eng/products/logic/rej03d0886_rd74hv1g02ds.pdf; ComponentLink3Description: Packaging Specification; ComponentLink3URL: http://sg.renesas.com/media/products/common_info/package/pdf/ic/code/pusn0005ka_a.pdf
footprint PUSN0005KA-A (SOP, 5-Flat Leads, Body 1.6x1.2x0.55mm, Pitch 0.5mm, Renesas Recommended)
pins: 1 IN B (in), 2 IN A (in), 3 GND (power) hidden, 4 OUT Y (out), 5 VCC (power) hidden